# EAGLE library part LIS2DW12TR (library LIS2DW12TR)
Mems Digital Output Motion Sensor
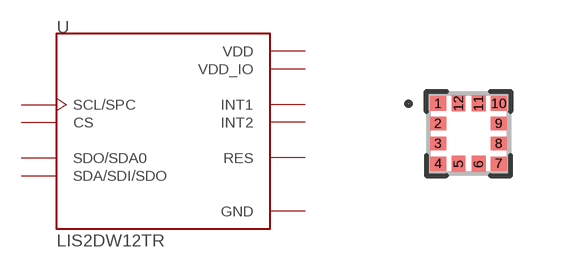
[diagram p0: symbol with the pads of LGA12R50P4X4_200X200X70; footprint LGA12R50P4X4_200X200X70]

Designator prefix U

## LIS2DW12TR (Availability: Unavailable; Description: Mems Digital Output Motion Sensor; MF: STMicroelectronics; MP: LIS2DW12TR; Package: LGA-12 STMicroelectronics; Price: None)  [LGA12R50P4X4_200X200X70]
1  SCL/SPC  in
2  CS  in
3  SDO/SDA0
4  SDA/SDI/SDO
6  GND  pwr
7  RES  pas
8  GND  pwr
9  VDD  pwr
10  VDD_IO  pwr
11  INT2  out
12  INT1  out

## Footprint LGA12R50P4X4_200X200X70 (pad centres in mm)
smd 0.4 x 0.35: 1 -0.76,0.75; 2 -0.76,0.25; 3 -0.76,-0.25; 4 -0.76,-0.75; 7 0.76,-0.75; 8 0.76,-0.25; 9 0.76,0.25; 10 0.76,0.75
smd 0.35 x 0.4: 5 -0.25,-0.76; 6 0.25,-0.76; 11 0.25,0.76; 12 -0.25,0.76